# Altium schematic symbol library Componentes_base.SchLib: 431 symbols (part 1 of 12)
Pins are listed as number, name and electrical type; pins without a type are passive.

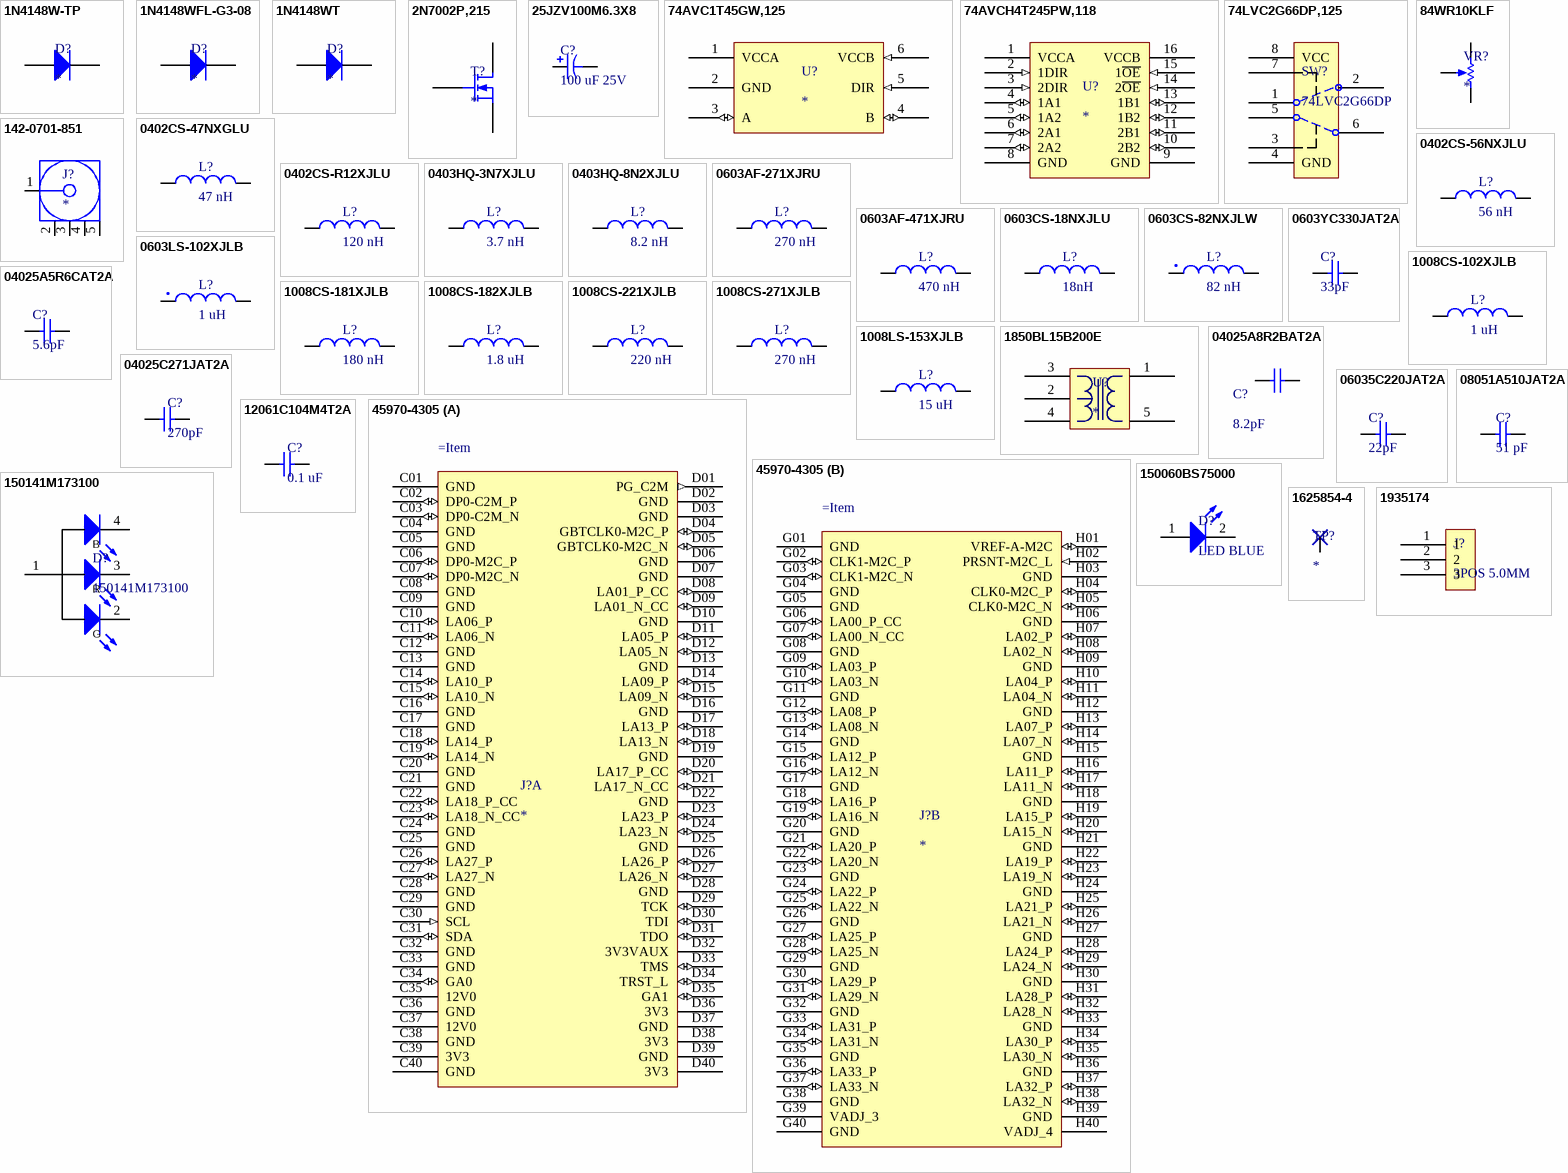
[diagram p0: symbols 1N4148W-TP to 1935174]

## 1N4148W-TP
designator D?
Diodes - General Purpose, Power, Switching 300mA, 100V; Manufacturer: Micro Commercial Components (MCC); Manufacturer Part Number: 1N4148W-TP; Configuration: Single; Forward Continuous Current: 0.15 A; Max Surge Current: 2 A; Recovery Time: 4 ns; Forward Voltage Drop: 1 V; Maximum Reverse Leakage Current: 5 uA; Diode Type: Standard; Current - Average Rectified (Io): 150mA; Voltage - Forward (Vf) (Max) @ If: 1.25V @ 150mA; Speed: Small Signal =< 200mA (Io), Any Speed; Reverse Recovery Time (trr): 4ns; Current - Reverse Leakage @ Vr: 1µA @ 75V; Capacitance @ Vr, F: 2pF @ 0V, 1MHz; Supplier 1: Mouser; Supplier Part Number 1: 833-1N4148W-TP; RoHS: RoHS Compliant; Category: Diodes - General Purpose, Power, Switching; Stock 1: 119556; Pricing 1: 1=0.112, 10=0.098, 100=0.035, 1000=0.023, 3000=0.017, 9000=0.016, 24000=0.014, 45000=0.012, 99000=0.010 (EUR); Operating Temperature Range: - 55 C to + 150 C; Package/Case: SOD-123; Packaging: Reel; Product: Switching Diodes; Series: 1N4148; Brand: Micro Commercial Components (MCC); Mounting Style: SMD/SMT; Maximum Operating Temperature: + 150 C; Minimum Operating Temperature: - 55 C; Peak Reverse Voltage: 100 V; Product Category: Diodes - Switching; Standard Pack Qty: 3000; RoHS - Mouser: Y; Minimum Order Quantity: 1; Reeling: True; ComponentLink1URL: http://www.mouser.com/ds/2/258/1N4148W(SOD123)-349435.pdf; ComponentLink1Description: http://www.mouser.com/ds/2/258/1N4148W(SOD123)-349435.pdf; Supplier 2: Digi-Key; Supplier Part Number 2: 1N4148WTPMSCT-ND; Stock 2: 48830; Pricing 2: 1=0.12, 10=0.11, 25=0.0996, 100=0.0718, 250=0.04228, 500=0.03508, 1000=0.02392 (EUR); Voltage - DC Reverse (Vr) (Max): 100V; Mounting Type: Surface Mount; Package / Case: SOD-123; Supplier Device Package: SOD-123; Operating Temperature - Junction: -65°C ~ 150°C; ComponentLink2URL: http://www.mccsemi.com/up_pdf/1N4148W(SOD123).pdf; ComponentLink2Description: http://www.mccsemi.com/up_pdf/1N4148W(SOD123).pdf
footprint SOD-523 (Molded Diode, 2-Leads, Body 1,60x0,80mm, IPC High Density)
pins: 1 K, 2 A

## 1N4148WFL-G3-08
designator D?
Diodes - General Purpose, Power, Switching 100volt 500mA 4ns; Manufacturer: Vishay Semiconductors; Manufacturer Part Number: 1N4148WFL-G3-08; Forward Continuous Current: 150 mA; Forward Voltage Drop: 1.2 V; Maximum Diode Capacitance: 4 pF; Maximum Power Dissipation: 350 mW; Maximum Reverse Leakage Current: 100 uA; Peak Reverse Voltage: 100 V; Product Status: New at Mouser; Diode Type: Standard; Voltage - DC Reverse (Vr) (Max): 75V; Current - Average Rectified (Io): 150mA; Voltage - Forward (Vf) (Max) @ If: 1.2V @ 100mA; Speed: Small Signal =< 200mA (Io), Any Speed; Current - Reverse Leakage @ Vr: 5µA @ 75V; Supplier 1: Mouser; Supplier Part Number 1: 78-1N4148WFL-G3-08; RoHS: RoHS Compliant; Category: Diodes - General Purpose, Power, Switching; Stock 1: 25581; Pricing 1: 1=0.087, 4500=0.026, 9000=0.022, 13500=0.019, 18000=0.016, 54000=0.015 (EUR); Operating Temperature Range: - 65 C to + 150 C; Package/Case: SOD-123; Packaging: Reel; Product: Switching Diodes; Series: 1N4148; Brand: Vishay Semiconductors; Max Surge Current: 500 mA; Mounting Style: SMD/SMT; Recovery Time: 4 ns; Maximum Operating Temperature: + 150 C; Minimum Operating Temperature: - 65 C; Product Category: Switching Diodes; Standard Pack Qty: 18000; RoHS - Mouser: Y; Minimum Order Quantity: 1; Reeling: True; ComponentLink1URL: http://www.mouser.com/ds/2/427/1n4148w-269644.pdf; ComponentLink1Description: http://www.mouser.com/ds/2/427/1n4148w-269644.pdf; Supplier 2: Digi-Key; Supplier Part Number 2: 1N4148WFL-G3-08GICT-ND; Stock 2: 849; Pricing 2: 1=0.11, 10=0.099, 25=0.0908, 100=0.0653, 250=0.03844, 500=0.03188, 1000=0.02175 (EUR); Reverse Recovery Time (trr): 4ns; Capacitance @ Vr, F: -; Mounting Type: Surface Mount; Package / Case: SOD-123; Supplier Device Package: SOD-123FL; Operating Temperature - Junction: 150°C (Max); ComponentLink2URL: http://www.vishay.com/docs/85887/1n4148wfl-g.pdf; ComponentLink2Description: http://www.vishay.com/docs/85887/1n4148wfl-g.pdf
footprint SOD123-FL (Molded Diode, 2-Leads, Body 2,60x1,60mm, IPC High Density)
pins: 1 K, 2 A

## 1N4148WT
designator D?
DIODE SWITCHING 75V 0.2A SOD523F; Manufacturer: Fairchild Semiconductor; Manufacturer Part Number: 1N4148WT; Diode Type: Standard; Current - Average Rectified (Io): 200mA; Voltage - Forward (Vf) (Max) @ If: 1V @ 10mA; Speed: Small Signal =< 200mA (Io), Any Speed; Reverse Recovery Time (trr): 4ns; Current - Reverse Leakage @ Vr: 5µA @ 75V; Capacitance @ Vr, F: 5pF @ 0V, 1MHz; Supplier 1: Digi-Key; Supplier Part Number 1: 1N4148WTCT-ND; RoHS: RoHS Compliant; Category: Discrete Semiconductor Products; Stock 1: 266025; Pricing 1: 1=0.13, 10=0.12, 25=0.1088, 100=0.0783, 250=0.04612, 500=0.03826, 1000=0.0261, 2500=0.02222 (EUR); Packaging: Cut Tape (CT); Voltage - DC Reverse (Vr) (Max): 75V; Mounting Type: Surface Mount; Package / Case: SC-79, SOD-523F; Supplier Device Package: SOD-523F; Operating Temperature - Junction: -55°C ~ 150°C; ComponentLink1URL: http://www.fairchildsemi.com/datasheets/1N/1N914BWT.pdf; ComponentLink1Description: http://www.fairchildsemi.com/datasheets/1N/1N914BWT.pdf
footprint SOD-523 (Molded Diode, 2-Leads, Body 1,60x0,80mm, IPC High Density)
pins: 1 K, 2 A

## 2N7002P,215
designator T?
MOSFET 60V 0.3A N-CHANNEL TRENCH MOSFET; Manufacturer: NXP Semiconductors; Manufacturer Part Number: 2N7002P,215; FET Type: MOSFET N-Channel, Metal Oxide; FET Feature: Logic Level Gate; Current - Continuous Drain (Id) @ 25°C: 360mA (Ta); Rds On (Max) @ Id, Vgs: 1.6 Ohm @ 500mA, 10V; Vgs(th) (Max) @ Id: 2.4V @ 250µA; Gate Charge (Qg) @ Vgs: 0.8nC @ 4.5V; Input Capacitance (Ciss) @ Vds: 50pF @ 10V; Power - Max: 350mW; Supplier 1: Digi-Key; Supplier Part Number 1: 568-5818-6-ND; RoHS: RoHS Compliant; Category: Discrete Semiconductor Products; Stock 1: 189364; Pricing 1: 1=0.12, 10=0.112, 25=0.102, 100=0.0734, 250=0.04324, 500=0.03588, 1000=0.02447 (EUR); Packaging: Digi-Reel®; Drain to Source Voltage (Vdss): 60V; Mounting Type: Surface Mount; Package / Case: TO-236-3, SC-59, SOT-23-3; Supplier Device Package: SOT-23 (TO-236AB); ComponentLink1URL: http://www.nxp.com/documents/data_sheet/2N7002P.pdf; ComponentLink1Description: http://www.nxp.com/documents/data_sheet/2N7002P.pdf
footprint SOT95P230X110-3N (SOT23, 3-Leads, Body 2,90x2,30mm, Pitch 0,95mm, IPC Medium Density)
footprint 8-QFN
pins: 1 G, 2 S, 3 D

## 25JZV100M6.3X8
designator C?, comment 100 uF 25V
CAP ALUM 100UF 20% 25V SMD; Manufacturer: Rubycon; Manufacturer Part Number: 25JZV100M6.3X8; Capacitance: 100µF; Lifetime @ Temp.: 2000 Hrs @ 105°C; Polarization: Polar; Ripple Current: 150mA; Impedance: 340 mOhm; Surface Mount Land Size: 0.260" L x 0.260" W (6.60mm x 6.60mm); Supplier 1: Digi-Key; RoHS: RoHS Compliant; Category: Capacitors; Stock 1: 1506; Pricing 1: 1=0.56, 10=0.394, 25=0.3368, 50=0.2982, 100=0.2597, 250=0.22128 (EUR); Packaging: Cut Tape (CT); Part Status: Active; Tolerance: ±20%; Voltage Rating: 25V; ESR (Equivalent Series Resistance): -; Operating Temperature: -55°C ~ 105°C; Applications: Automotive; High Temperature Reflow; Lead Spacing: -; Size / Dimension: 0.248" Dia (6.30mm); Height - Seated (Max): 0.315" (8.00mm); Mounting Type: Surface Mount; Package / Case: Radial, Can - SMD; ComponentLink1URL: http://www.rubycon.co.jp/en/catalog/e_pdfs/aluminum/e_jzv.pdf; ComponentLink1Description: http://www.rubycon.co.jp/en/catalog/e_pdfs/aluminum/e_jzv.pdf; Supplier Part Number 1: 1189-2425-1-ND
footprint CAPAE7266X80M (Aluminum Electrolytic Capacitor, Body 6,60x6,60x8,00mm, IPC Low Density)
pins: 1, 2

## 74AVC1T45GW,125
designator U?
Bus Transceivers 2.5V 1G DUAL-SUP; Manufacturer: NXP Semiconductors; Manufacturer Part Number: 74AVC1T45GW,125; Supply Current: 100 mA; Logic Type: Translating Transceiver; Logic Function: Translator, Bidirectional, 3-State; Number of Bits: 1; Input Type: Logic; Data Rate: 500Mbps; Differential - Input:Output: No/No; Propagation Delay (Max): 2.7ns; Voltage - Supply: 0.8 V ~ 3.6 V; Supplier 1: Mouser; Supplier Part Number 1: 771-AVC1T45GW125; RoHS: RoHS Compliant; Category: Bus Transceivers; Stock 1: 12547; Pricing 1: 1=0.372, 10=0.247, 100=0.178, 1000=0.147, 3000=0.125, 9000=0.113, 24000=0.111, 45000=0.108, 99000=0.104 (EUR); Package/Case: SC-88; Packaging: Reel; Brand: NXP Semiconductors; Mounting Style: SMD/SMT; Maximum Operating Temperature: + 125 C; Minimum Operating Temperature: - 40 C; Product Category: Demos & Evaluation Kits; Standard Pack Qty: 3000; RoHS - Mouser: Y; Minimum Order Quantity: 1; Reeling: True; ComponentLink1URL: http://www.nxp.com/documents/data_sheet/74AVC1T45.pdf; ComponentLink1Description: http://www.nxp.com/documents/data_sheet/74AVC1T45.pdf; Supplier 2: Digi-Key; Supplier Part Number 2: 568-7723-1-ND; Stock 2: 8189; Pricing 2: 1=0.43, 10=0.363, 25=0.318, 100=0.2719, 250=0.2358, 500=0.19974, 1000=0.15398 (EUR); Output Type: Logic; Number of Channels: 1; Number of Outputs/Channel: 1; Operating Temperature: -40°C ~ 125°C; Package / Case: 6-TSSOP, SC-88, SOT-363; Supplier Device Package: 6-TSSOP; Mounting Type: Surface Mount
footprint SC70P220X110-6N (SC-70, 6-Leads, Body 2,00x2,20mm, Pitch 0,65mm, IPC Medium Density)
pins: 1 VCCA (power), 2 GND (power), 3 A (io), 4 B (io), 5 DIR (in), 6 VCCB (in)

## 74AVCH4T245PW,118
designator U?
Bus Transceivers 2CHAN 3.6V 500mW; Manufacturer: NXP Semiconductors; Manufacturer Part Number: 74AVCH4T245PW,118; Logic Family: 74ACH; Number of Channels per Chip: 2; Propagation Delay Time: 6 ns, 12 ns; Supply Voltage - Min: 0.8 V; Logic Function: Translator, Bidirectional, 3-State; Input Type: Voltage; Data Rate: 380Mbps; Number of Channels: 1; Differential - Input:Output: No/No; Propagation Delay (Max): 3.3ns; Voltage - Supply: 0.8 V ~ 3.6 V; Supplier 1: Mouser; Supplier Part Number 1: 771-74AVCH4T245PW118; RoHS: RoHS Compliant; Category: Bus Transceivers; Stock 1: 2727; Pricing 1: 1=0.753, 10=0.600, 100=0.465, 500=0.411, 1000=0.324, 2500=0.287, 10000=0.277, 25000=0.268 (EUR); Package/Case: TSSOP-16; Packaging: Reel; Brand: NXP Semiconductors; Mounting Style: SMD/SMT; Maximum Operating Temperature: + 125 C; Maximum Power Dissipation: 500 mW; Minimum Operating Temperature: - 40 C; Standard Pack Qty: 2500; Supply Voltage - Max: 3.6 V; RoHS - Mouser: Y; Minimum Order Quantity: 1; Reeling: True; ComponentLink1URL: http://www.mouser.com/ds/2/302/74AVCH4T245-105838.pdf; ComponentLink1Description: http://www.mouser.com/ds/2/302/74AVCH4T245-105838.pdf; Supplier 2: Digi-Key; Supplier Part Number 2: 568-5259-1-ND; Stock 2: 6226; Pricing 2: 1=0.79, 10=0.702, 25=0.6336, 100=0.5543, 250=0.48616, 500=0.43114, 1000=0.34096 (EUR); Number of Bits: 2; Output Type: Voltage; Number of Outputs/Channel: 2; Operating Temperature: -40°C ~ 125°C; Package / Case: 16-TSSOP (0.173", 4.40mm Width); Supplier Device Package: 16-TSSOP; Mounting Type: Surface Mount; ComponentLink2URL: http://www.nxp.com/documents/data_sheet/74AVCH4T245.pdf; ComponentLink2Description: http://www.nxp.com/documents/data_sheet/74AVCH4T245.pdf
footprint TSOP65P640X110-16L (TSOP, 16-Leads, Body 5,00x4,40mm, Pitch 0,65mm, IPC High Density)
pins: 1 VCCA (power), 2 1DIR (in), 3 2DIR (in), 4 1A1 (io), 5 1A2 (io), 6 2A1 (io), 7 2A2 (io), 8 GND (power), 9 GND (power), 10 2B2 (io), 11 2B1 (io), 12 1B2 (io), 13 1B1 (io), 14 2~{OE} (in), 15 1~{OE} (in), 16 VCCB (power)

## 74LVC2G66DP,125
designator SW?, comment 74LVC2G66DP
IC SWITCH DUAL SPST 8TSSOP; Manufacturer: Nexperia USA Inc.; Manufacturer Part Number: 74LVC2G66DP,125; Switch Circuit: SPST - NO; Multiplexer/Demultiplexer Circuit: 1:1; Number of Circuits: 2; On-State Resistance (Max): 10 Ohm; Voltage - Supply, Single (V+): 1.65 V ~ 5.5 V; Switch Time (Ton, Toff) (Max): 3.9ns, 5ns; -3db Bandwidth: 500MHz; Charge Injection: 7.5pC; Channel Capacitance (CS(off), CD(off)): 5pF; Current - Leakage (IS(off)) (Max): 5µA; Crosstalk: -56dB @ 1MHz; Supplier 1: Digi-Key; RoHS: RoHS Compliant; Category: Integrated Circuits (ICs); Stock 1: 0; Pricing 1: 1=0.44, 10=0.354, 100=0.2404, 500=0.18032, 1000=0.13524 (EUR); Packaging: Cut Tape (CT); Part Status: Active; Channel-to-Channel Matching (&Delta;Ron): -; Voltage - Supply, Dual (V±): -; Operating Temperature: -40°C ~ 125°C (TA); Package / Case: 8-TSSOP, 8-MSOP (0.118", 3.00mm Width); Supplier Device Package: 8-TSSOP; ComponentLink1URL: http://assets.nexperia.com/documents/data-sheet/74LVC2G66.pdf; ComponentLink1Description: http://assets.nexperia.com/documents/data-sheet/74LVC2G66.pdf; Supplier Part Number 1: 1727-5993-1-ND
footprint 8-TSSOP/SOT505-2
pins: 1 1Y, 2 1Z, 3 2E, 4 GND, 5 2Y, 6 2Z, 7 1E, 8 VCC

## 84WR10KLF
designator VR?
Trimmer Resistors - SMD 6.35MM 1/4" 12-TURN SEALED; Manufacturer: BI Technologies / TT Electronics; Manufacturer Part Number: 84WR10KLF; Power Rating: 250 mW (1/4 W); Resistance: 10 kOhms; Tolerance: 10 %; Adjustment: Top Slot; Element Type: Cermet; Resistance (Ohms): 10k; Power (Watts): 0.25W, 1/4W; Temperature Coefficient: ±100ppm/°C; Number of Turns: 12; Adjustment Type: Top Adjustment; Supplier 1: Mouser; RoHS: RoHS Compliant By Exemption; Category: Trimmer Resistors - SMD; Stock 1: 391; Pricing 1: 1=2.03, 25=1.88, 50=1.76, 100=1.55, 200=1.32, 500=1.11, 1000=0.955, 2000=0.937 (EUR); Packaging: Bulk; Product: Multiturn; Termination Style: SMD/SMT; Type: Trimmers; Brand: BI Technologies / TT Electronics; Product Category: Multi Turn SMD Trimmers; Standard Pack Qty: 50; RoHS - Mouser: E; Minimum Order Quantity: 1; Reeling: False; ComponentLink1URL: http://www.mouser.com/ds/2/414/84-220076.pdf; ComponentLink1Description: http://www.mouser.com/ds/2/414/84-220076.pdf; Supplier 2: Digi-Key; Stock 2: 1668; Pricing 2: 1=2.08, 10=1.84, 25=1.706, 50=1.6056, 100=1.4049, 250=1.2042, 500=1.0035, 1000=0.8697, 2500=0.85298 (EUR); Resistive Material: Cermet; Mounting Type: Surface Mount; Size / Dimension: Rectangular - 0.250" x 0.170" Face x 0.295" H (6.35mm x 4.32mm x 7.49mm); ComponentLink2URL: http://www.bitechnologies.com/pdfs/84.pdf; ComponentLink2Description: http://www.bitechnologies.com/pdfs/84.pdf; Supplier Part Number 1: 858-84WR10KLF; Supplier Part Number 2: 987-1155-ND
footprint TT BI 84W SERIES (MULTITURN TRIMMER, 3-Leads, Body 6,35x6,36mm, Pitch 2,54mm, IPC High Density)
pins: 1 TOP, 2 TAP, 3 BOT

## 142-0701-851
designator J?
RF Connectors / Coaxial Connectors PC END MT JCK GLD .062 BOARDS TAB; Manufacturer: Johnson / Cinch Connectivity Solutions; Manufacturer Part Number: 142-0701-851; Body Material: Brass; Body Style: Straight; Gender: Jack (Female); Impedance: 50 Ohms; RF Series: SMA; Maximum Frequency: 18 GHz; Connector Type: Jack, Female Socket; Contact Termination: Solder; Frequency - Max: 18GHz; Body Finish: Gold; Center Contact Material: Beryllium Copper; Dielectric Material: Polytetrafluoroethylene (PTFE); Voltage Rating: 335V; Supplier 1: Mouser; Supplier Part Number 1: 530-142-0701-851; RoHS: RoHS Compliant; Category: RF Connectors / Coaxial Connectors; Stock 1: 21985; Pricing 1: 1=4.65, 10=4.13, 25=3.56, 100=3.09, 500=2.49, 1000=2.34 (EUR); Contact Plating: Gold; Operating Temperature Range: - 65 C to + 165 C; Orientation: Straight; Product: Connectors; Series: SMA; Termination Style: Solder; Brand: Johnson / Cinch Connectivity Solutions; Product Category: SMA Connectors; Standard Pack Qty: 5; RoHS - Mouser: Y; Minimum Order Quantity: 1; Reeling: False; ComponentLink1URL: http://emersonconnectivity.com/OA_HTML/ibeCCtpItmDspRte.jsp?item=4253264; ComponentLink1Description: http://emersonconnectivity.com/OA_HTML/ibeCCtpItmDspRte.jsp?item=4253264; Supplier 2: Digi-Key; Supplier Part Number 2: J658-ND; Stock 2: 64832; Pricing 2: 1=5.23, 10=4.656, 50=3.8012, 100=3.421, 250=3.13592, 500=2.66078, 750=2.52775, 1000=2.3757, 2500=2.28068 (EUR); Packaging: Bulk; Connector Style: SMA; Shield Termination: Solder; Mounting Type: Board Edge, End Launch; Cable Group: -; Fastening Type: Threaded; Features: -; Housing Color: Gold; Ingress Protection: -; Center Contact Plating: Gold; Operating Temperature: -65°C ~ 165°C; ComponentLink2URL: http://emersonconnectivity.com/OA_MEDIA/drawings/dr-1420701851.pdf; ComponentLink2Description: http://emersonconnectivity.com/OA_MEDIA/drawings/dr-1420701851.pdf
footprint 142-0701-851 (CONN SMA JACK 50 OHM EDGE MNT)
pins: 1 Signal (io) "Signal Pin", 2 GND (power), 3 GND (power), 4 GND (power), 5 GND (power)

## 0402CS-47NXGLU
designator L?, comment 47 nH
COILCRAFT - 0402CS-47NXGLU - INDUCTOR, RF, 47NH, 2%, 2.1GHZ, SMD; Supplier 1: Farnell; Manufacturer: COILCRAFT; Manufacturer Part Number: 0402CS-47NXGLU; RoHS: Y-EX; Stock 1: 477; Pricing 1: 1=1,18, 10=1,06, 50=0,89, 100=0,829, 200=0,79, 500=0,529, 1000=0,418 (EUR); ComponentLink1URL: http://www.farnell.com/datasheets/1681871.pdf; ComponentLink1Description: http://www.farnell.com/datasheets/1681871.pdf; Supplier Part Number 1: 2285690
footprint INDC1005X07L (Coilcraft 0402CS, 2-Leads, Body 1,10x0,57mm, IPC High Density)
pins: 1, 2

## 0402CS-56NXJLU
designator L?, comment 56 nH
Fixed Inductors 0402CS HiFreq Chip 56 nH 5 % 0.1 A; Manufacturer: Coilcraft; Manufacturer Part Number: 0402CS-56NXJLU; Core Material: Ceramic; Maximum DC Current: 100 mA; Maximum DC Resistance: 970 mOhms; Q Minimum: 42; Self Resonant Frequency: 1.76 GHz; Tolerance: 5 %; Test Frequency: 250 MHz; Supplier 1: Mouser; RoHS: RoHS Compliant; Category: Fixed Inductors; Stock 1: 2095; Pricing 1: 1=1.29, 10=1.12, 50=0.914, 100=0.839, 200=0.793, 500=0.500, 1000=0.367, 2000=0.340 (EUR); Height: 0.66 mm; Inductance: 56 nH; Length: 1.19 mm; Operating Temperature Range: - 40 C to + 125 C; Package/Case: 0402 (1005 metric); Packaging: Reel; Product: RF Inductors; Series: 0402CS; Termination Style: SMD/SMT; Width: 0.64 mm; Brand: Coilcraft; Mounting Style: SMD/SMT; Standard Pack Qty: 200; RoHS - Mouser: Y; Minimum Order Quantity: 1; Reeling: True; ComponentLink1URL: http://www.mouser.com/ds/2/597/0402cs-253326.pdf; ComponentLink1Description: http://www.mouser.com/ds/2/597/0402cs-253326.pdf; Supplier Part Number 1: 994-0402CS-56NXJLU
footprint INDC1005X07L (Coilcraft 0402CS, 2-Leads, Body 1,10x0,57mm, IPC High Density)
pins: 1, 2

## 0402CS-R12XJLU
designator L?, comment 120 nH
Fixed Inductors RF Chip Inductor 120 nH 5 % 0.05 A; Manufacturer: Coilcraft; Manufacturer Part Number: 0402CS-R12XJLU; Core Material: Ceramic; Maximum DC Current: 50 mA; Maximum DC Resistance: 2.2 Ohms; Self Resonant Frequency: 1.1 GHz; Tolerance: 5 %; Case Height: 0.66 mm; Case Length: 1.19 mm; Case Width: 0.64 mm; Test Frequency: 250 MHz; Product Status: New at Mouser; Supplier 1: Mouser; Supplier Part Number 1: 994-0402CS-R12XJLU; RoHS: RoHS Compliant; Category: Fixed Inductors; Stock 1: 189; Pricing 1: 1=1.20, 10=1.04, 50=0.848, 100=0.779, 200=0.736, 400=0.465, 1000=0.341, 2000=0.316 (EUR); Inductance: 120 nH; Operating Temperature Range: - 40 C to + 125 C; Package/Case: 0402 (1005 metric); Packaging: Reel; Product: RF Chip Inductors; Series: 0402CS; Termination Style: SMD/SMT; Brand: Coilcraft; Standard Pack Qty: 200; RoHS - Mouser: Y; Minimum Order Quantity: 1; Reeling: True; ComponentLink1URL: http://www.mouser.com/ds/2/597/0402cs-253326.pdf; ComponentLink1Description: http://www.mouser.com/ds/2/597/0402cs-253326.pdf
footprint INDC1005X07L (Coilcraft 0402CS, 2-Leads, Body 1,10x0,57mm, IPC High Density)
pins: 1, 2

## 0403HQ-3N7XJLU
designator L?, comment 3.7 nH
Fixed Inductors RF Chip Inductor 3.7 nH 5 % 1.8 A; Manufacturer: Coilcraft; Manufacturer Part Number: 0403HQ-3N7XJLU; Core Material: Ceramic; Maximum DC Current: 1.8 A; Maximum DC Resistance: 20 mOhms; Q Minimum: 95; Self Resonant Frequency: 8.65 GHz; Tolerance: 5 %; Case Height: 0.71 mm; Case Length: 1.19 mm; Case Width: 0.86 mm; Test Frequency: 500 MHz; Product Status: New at Mouser; Supplier 1: Mouser; Supplier Part Number 1: 994-0403HQ-3N7XJLU; RoHS: RoHS Compliant; Category: Fixed Inductors; Stock 1: 408; Pricing 1: 1=1.31, 10=1.15, 50=1.02, 100=0.899, 200=0.774, 400=0.690, 1000=0.630, 2000=0.584 (EUR); Inductance: 3.7 nH; Operating Temperature Range: - 40 C to + 125 C; Package/Case: 0403 (1008 metric); Packaging: Reel; Product: RF Chip Inductors; Series: 0403HQ; Termination Style: SMD/SMT; Brand: Coilcraft; Standard Pack Qty: 200; RoHS - Mouser: Y; Minimum Order Quantity: 1; Reeling: True; ComponentLink1URL: http://www.mouser.com/ds/2/597/0403hq-270639.pdf; ComponentLink1Description: http://www.mouser.com/ds/2/597/0403hq-270639.pdf
footprint INDC1008X07L (Coilcraft 0403HQ, 2-Leads, Body 1,09x0,76mm, IPC High Density)
pins: 1, 2

## 0403HQ-8N2XJLU
designator L?, comment 8.2 nH
Fixed Inductors 0403HQ High Q Chip 8.2 nH 5 % 1.2 A; Manufacturer: Coilcraft; Manufacturer Part Number: 0403HQ-8N2XJLU; Core Material: Ceramic; Maximum DC Current: 1.2 A; Maximum DC Resistance: 40 mOhms; Q Minimum: 92; Self Resonant Frequency: 6.73 GHz; Tolerance: 5 %; Test Frequency: 500 MHz; Supplier 1: Mouser; RoHS: RoHS Compliant; Category: Fixed Inductors; Stock 1: 0; Pricing 1: 1=1.41, 10=1.24, 50=1.10, 100=0.968, 200=0.834, 500=0.743, 1000=0.679, 2000=0.629 (EUR); Height: 0.71 mm; Inductance: 8.2 nH; Length: 1.19 mm; Operating Temperature Range: - 40 C to + 125 C; Package/Case: 0403 (1008 metric); Packaging: Bulk; Product: RF Inductors; Series: 0403HQ; Termination Style: SMD/SMT; Width: 0.86 mm; Brand: Coilcraft; Mounting Style: SMD/SMT; Standard Pack Qty: 200; RoHS - Mouser: Y; Minimum Order Quantity: 1; Reeling: False; ComponentLink1URL: http://www.mouser.com/ds/2/597/0403hq-270639.pdf; ComponentLink1Description: http://www.mouser.com/ds/2/597/0403hq-270639.pdf; Supplier Part Number 1: 994-0403HQ-8N2XJLU
footprint INDC1008X07L (Coilcraft 0403HQ, 2-Leads, Body 1,09x0,76mm, IPC High Density)
pins: 1, 2

## 0603AF-271XJRU
designator L?, comment 270 nH
Fixed Inductors RF Chip Inductor 270 nH 5 % 0.68 A; Manufacturer: Coilcraft; Manufacturer Part Number: 0603AF-271XJRU; Core Material: Ferrite; Maximum DC Current: 680 mA; Maximum DC Resistance: 220 mOhms; Q Minimum: 15; Self Resonant Frequency: 750 MHz; Tolerance: 5 %; Case Height: 0.91 mm; Case Length: 1.8 mm; Case Width: 1.12 mm; Test Frequency: 7.9 MHz; Product Status: New at Mouser; Supplier 1: Mouser; Supplier Part Number 1: 994-0603AF-271XJRU; RoHS: RoHS Compliant; Category: Fixed Inductors; Stock 1: 1179; Pricing 1: 1=1.23, 10=1.10, 50=0.932, 100=0.857, 200=0.812, 500=0.587, 1000=0.420, 2000=0.389 (EUR); Inductance: 270 nH; Operating Temperature Range: - 40 C to + 85 C; Package/Case: 0603 (1608 metric); Packaging: Reel; Product: RF Chip Inductors; Series: 0603AF; Termination Style: SMD/SMT; Brand: Coilcraft; Standard Pack Qty: 100; RoHS - Mouser: Y; Minimum Order Quantity: 1; Reeling: True; ComponentLink1URL: http://www.mouser.com/ds/2/597/0603af-270719.pdf; ComponentLink1Description: http://www.mouser.com/ds/2/597/0603af-270719.pdf
footprint INDC1811X09L (Chip Inductor, 2-Leads, Body 1,80x1,12mm, IPC High Density)
pins: 1, 2

## 0603AF-471XJRU
designator L?, comment 470 nH
Fixed Inductors 0603AF Ferrite Chip 470 nH 5 % 0.61 A; Manufacturer: Coilcraft; Manufacturer Part Number: 0603AF-471XJRU; Maximum DC Current: 610 mA; Maximum DC Resistance: 370 mOhms; Q Minimum: 15; Self Resonant Frequency: 575 MHz; Tolerance: 5 %; Test Frequency: 7.9 MHz; Supplier 1: Mouser; RoHS: RoHS Compliant; Category: Fixed Inductors; Stock 1: 113; Pricing 1: 1=1.32, 10=1.19, 50=1.00, 100=0.923, 200=0.875, 500=0.633, 1000=0.453, 2000=0.419 (EUR); Core Material: Ferrite; Height: 0.91 mm; Inductance: 470 nH; Length: 1.8 mm; Operating Temperature Range: - 40 C to + 85 C; Package/Case: 0603 (1608 metric); Packaging: Reel; Product: RF Inductors; Series: 0603AF; Termination Style: SMD/SMT; Width: 1.12 mm; Brand: Coilcraft; Mounting Style: SMD/SMT; Standard Pack Qty: 100; RoHS - Mouser: Y; Minimum Order Quantity: 1; Reeling: True; ComponentLink1URL: http://www.mouser.com/ds/2/597/0603af-270719.pdf; ComponentLink1Description: http://www.mouser.com/ds/2/597/0603af-270719.pdf; Supplier Part Number 1: 994-0603AF-471XJRU
footprint INDC1811X09L (Chip Inductor, 2-Leads, Body 1,80x1,12mm, IPC High Density)
pins: 1, 2

## 0603CS-18NXJLU
designator L?, comment 18nH
COILCRAFT - 0603CS-18NXJLU - INDUCTOR, RF, 18NH, 5%, 3.1GHZ, SMD
footprint INDC1811X10L 0603CS (Chip Inductor, 2-Leads, Body 1,80x1,12mm, IPC High Density)
pins: 1, 2

## 0603CS-82NXJLW
designator L?, comment 82 nH
Fixed Inductors 0603CS High Q, SRF 82 nH 5 % 0.4 A; Manufacturer: Coilcraft; Manufacturer Part Number: 0603CS-82NXJLW; Core Material: Ceramic; Maximum DC Current: 400 mA; Maximum DC Resistance: 540 mOhms; Q Minimum: 21; Self Resonant Frequency: 1.7 GHz; Tolerance: 5 %; Test Frequency: 150 MHz; Supplier 1: Mouser; RoHS: RoHS Compliant; Category: Fixed Inductors; Stock 1: 1730; Pricing 1: 1=0.887, 10=0.822, 50=0.722, 100=0.662, 200=0.626, 500=0.447, 1000=0.293, 2000=0.262 (EUR); Height: 1.02 mm; Inductance: 82 nH; Length: 1.8 mm; Operating Temperature Range: - 40 C to + 125 C; Package/Case: 0603 (1608 metric); Packaging: Reel; Product: RF Inductors; Series: 0603CS; Termination Style: SMD/SMT; Width: 1.12 mm; Brand: Coilcraft; Mounting Style: SMD/SMT; Standard Pack Qty: 2000; RoHS - Mouser: Y; Minimum Order Quantity: 1; Reeling: True; ComponentLink1URL: http://www.mouser.com/ds/2/597/0603cs-270694.pdf; ComponentLink1Description: http://www.mouser.com/ds/2/597/0603cs-270694.pdf; Supplier Part Number 1: 994-0603CS-82NXJLW
footprint INDC1811X10L 0603CS (Chip Inductor, 2-Leads, Body 1,80x1,12mm, IPC High Density)
pins: 1, 2

## 0603LS-102XJLB
designator L?, comment 1 uH
Fixed Inductors 0603LS Ferrite Chip 1uH 5% 0.4A Cer/Ferr; Manufacturer: Coilcraft; Manufacturer Part Number: 0603LS-102XJLB; Core Material: Ceramic/Ferrite; Maximum DC Current: 400 mA; Maximum DC Resistance: 810 mOhms; Q Minimum: 15; Self Resonant Frequency: 190 MHz; Test Frequency: 7.9 MHz; Supplier 1: Mouser; RoHS: RoHS Compliant; Category: Fixed Inductors; Stock 1: 678; Pricing 1: 1=1.32, 10=1.19, 50=1.00, 100=0.923, 200=0.875, 500=0.633, 1000=0.453, 2000=0.419 (EUR); Height: 1.12 mm; Inductance: 1 uH; Length: 1.8 mm; Operating Temperature Range: - 40 C to + 85 C; Package/Case: 0603 (1608 metric); Packaging: Reel; Product: RF Inductors; Series: 0603LS; Termination Style: SMD/SMT; Tolerance: 5 %; Width: 1.169 mm; Brand: Coilcraft; Mounting Style: SMD/SMT; Standard Pack Qty: 70; RoHS - Mouser: Y; Minimum Order Quantity: 1; Reeling: True; ComponentLink1URL: http://www.mouser.com/ds/2/597/0603ls-270606.pdf; ComponentLink1Description: http://www.mouser.com/ds/2/597/0603ls-270606.pdf; Supplier Part Number 1: 994-0603LS-102XJLB
footprint INDC1812X11L 0603LS (Chip Inductor, 2-Leads, Body 1,80x1,17mm, IPC High Density)
pins: 1, 2

## 0603YC330JAT2A
designator C?, comment 33pF
CAP CER 33PF 16V X7R 0603; Manufacturer: AVX Corporation; Manufacturer Part Number: 0603YC330JAT2A; Tolerance: ±5%; Supplier 1: Digi-Key; RoHS: RoHS Compliant; Category: Capacitors; Stock 1: 39192; Pricing 1: 1=0.19, 10=0.127, 25=0.0932, 50=0.0764, 100=0.0643, 250=0.05252, 500=0.04404, 1000=0.03896 (EUR); Packaging: Digi-Reel®; Part Status: Active; Capacitance: 33pF; Voltage - Rated: 16V; Temperature Coefficient: X7R; Operating Temperature: -55°C ~ 125°C; Features: -; Ratings: -; Applications: General Purpose; Mounting Type: Surface Mount, MLCC; Package / Case: 0603 (1608 Metric); Size / Dimension: 0.063" L x 0.032" W (1.60mm x 0.81mm); Height - Seated (Max): -; Thickness (Max): 0.035" (0.90mm); Lead Spacing: -; Lead Style: -; ComponentLink1URL: http://datasheets.avx.com/X7RDielectric.pdf; ComponentLink1Description: http://datasheets.avx.com/X7RDielectric.pdf; Supplier Part Number 1: 478-6211-6-ND
footprint 0603 Cap (Chip Capacitor, Body 1.6x0.8mm, IPC High Density)
pins: 1, 2

## 1008CS-102XJLB
designator L?, comment 1 uH
Fixed Inductors RF Chip Inductor 1000 nH 5 % 0.37 A; Manufacturer: Coilcraft; Manufacturer Part Number: 1008CS-102XJLB; Core Material: Ceramic; Maximum DC Current: 370 mA; Maximum DC Resistance: 1.75 Ohms; Q Minimum: 35; Self Resonant Frequency: 290 MHz; Tolerance: 5 %; Case Height: 2.03 mm; Case Length: 2.92 mm; Case Width: 2.79 mm; Test Frequency: 25 MHz; Product Status: New at Mouser; Supplier 1: Mouser; Supplier Part Number 1: 994-1008CS-102XJLB; RoHS: RoHS Compliant; Category: Fixed Inductors; Stock 1: 782; Pricing 1: 1=0.882, 10=0.784, 50=0.711, 70=0.711, 100=0.664, 200=0.617, 500=0.442, 1000=0.316, 2000=0.289 (EUR); Inductance: 1 uH; Operating Temperature Range: - 40 C to + 125 C; Package/Case: 1008; Packaging: Reel; Product: RF Chip Inductors; Series: 1008CS; Termination Style: SMD/SMT; Brand: Coilcraft; Standard Pack Qty: 70; RoHS - Mouser: Y; Minimum Order Quantity: 1; Reeling: True; ComponentLink1URL: http://www.mouser.com/ds/2/597/1008cs-270617.pdf; ComponentLink1Description: http://www.mouser.com/ds/2/597/1008cs-270617.pdf
footprint INDC2520X20L (Coilcraft 1008CS, 2-Leads, Body 2,92x2,79mm, IPC High Density)
pins: 1, 2

## 1008CS-181XJLB
designator L?, comment 180 nH
Fixed Inductors 1008CS Ceramic Chip 180 nH 5 % 0.62 A; Manufacturer: Coilcraft; Manufacturer Part Number: 1008CS-181XJLB; Maximum DC Current: 620 mA; Maximum DC Resistance: 770 mOhms; Q Minimum: 45; Self Resonant Frequency: 750 MHz; Tolerance: 5 %; Test Frequency: 25 MHz; Supplier 1: Mouser; RoHS: RoHS Compliant; Category: Fixed Inductors; Stock 1: 2387; Pricing 1: 1=0.950, 10=0.844, 50=0.767, 100=0.715, 200=0.665, 500=0.476, 1000=0.340, 2000=0.311 (EUR); Core Material: Ceramic; Height: 2.03 mm; Inductance: 180 nH; Length: 2.92 mm; Operating Temperature Range: - 40 C to + 125 C; Package/Case: 1008 (2520 metric); Packaging: Reel; Product: RF Inductors; Series: 1008CS; Termination Style: SMD/SMT; Width: 2.79 mm; Brand: Coilcraft; Mounting Style: SMD/SMT; Standard Pack Qty: 70; RoHS - Mouser: Y; Minimum Order Quantity: 1; Reeling: True; ComponentLink1URL: http://www.mouser.com/ds/2/597/1008cs-270617.pdf; ComponentLink1Description: http://www.mouser.com/ds/2/597/1008cs-270617.pdf; Supplier Part Number 1: 994-1008CS-181XJLB
footprint INDC2520X20L (Coilcraft 1008CS, 2-Leads, Body 2,92x2,79mm, IPC High Density)
pins: 1, 2

## 1008CS-182XJLB
designator L?, comment 1.8 uH
Fixed Inductors RF Chip Inductor 1800 nH 5 % 0.3 A; Manufacturer: Coilcraft; Manufacturer Part Number: 1008CS-182XJLB; Core Material: Ceramic; Maximum DC Current: 300 mA; Maximum DC Resistance: 2.6 Ohms; Q Minimum: 28; Self Resonant Frequency: 160 MHz; Tolerance: 5 %; Case Height: 2.03 mm; Case Length: 2.92 mm; Case Width: 2.79 mm; Test Frequency: 7.9 MHz; Product Status: New at Mouser; Supplier 1: Mouser; Supplier Part Number 1: 994-1008CS-182XJLB; RoHS: RoHS Compliant; Category: Fixed Inductors; Stock 1: 226; Pricing 1: 1=0.882, 10=0.784, 50=0.711, 70=0.711, 100=0.664, 200=0.617, 500=0.442, 1000=0.316, 2000=0.289 (EUR); Inductance: 1.8 uH; Operating Temperature Range: - 40 C to + 125 C; Package/Case: 1008; Packaging: Reel; Product: RF Chip Inductors; Series: 1008CS; Termination Style: SMD/SMT; Brand: Coilcraft; Standard Pack Qty: 70; RoHS - Mouser: Y; Minimum Order Quantity: 1; Reeling: True; ComponentLink1URL: http://www.mouser.com/ds/2/597/1008cs-270617.pdf; ComponentLink1Description: http://www.mouser.com/ds/2/597/1008cs-270617.pdf
footprint INDC2520X20L (Coilcraft 1008CS, 2-Leads, Body 2,92x2,79mm, IPC High Density)
pins: 1, 2

## 1008CS-221XJLB
designator L?, comment 220 nH
Fixed Inductors 1008CS Ceramic Chip 220 nH 5 % 0.5 A; Manufacturer: Coilcraft; Manufacturer Part Number: 1008CS-221XJLB; Maximum DC Current: 500 mA; Maximum DC Resistance: 840 mOhms; Q Minimum: 45; Self Resonant Frequency: 700 MHz; Tolerance: 5 %; Test Frequency: 25 MHz; Supplier 1: Mouser; RoHS: RoHS Compliant; Category: Fixed Inductors; Stock 1: 810; Pricing 1: 1=0.950, 10=0.844, 50=0.767, 100=0.715, 200=0.665, 500=0.476, 1000=0.340, 2000=0.311 (EUR); Core Material: Ceramic; Height: 2.03 mm; Inductance: 220 nH; Length: 2.92 mm; Operating Temperature Range: - 40 C to + 125 C; Package/Case: 1008 (2520 metric); Packaging: Reel; Product: RF Inductors; Series: 1008CS; Termination Style: SMD/SMT; Width: 2.79 mm; Brand: Coilcraft; Mounting Style: SMD/SMT; Standard Pack Qty: 70; RoHS - Mouser: Y; Minimum Order Quantity: 1; Reeling: True; ComponentLink1URL: http://www.mouser.com/ds/2/597/1008cs-270617.pdf; ComponentLink1Description: http://www.mouser.com/ds/2/597/1008cs-270617.pdf; Supplier Part Number 1: 994-1008CS-221XJLB
footprint INDC2520X20L (Coilcraft 1008CS, 2-Leads, Body 2,92x2,79mm, IPC High Density)
pins: 1, 2

## 1008CS-271XJLB
designator L?, comment 270 nH
Fixed Inductors RF Chip Inductor 270 nH 5 % 0.5 A; Manufacturer: Coilcraft; Manufacturer Part Number: 1008CS-271XJLB; Core Material: Ceramic; Maximum DC Current: 500 mA; Maximum DC Resistance: 910 mOhms; Q Minimum: 45; Self Resonant Frequency: 600 MHz; Tolerance: 5 %; Case Height: 2.03 mm; Case Length: 2.92 mm; Case Width: 2.79 mm; Test Frequency: 25 MHz; Product Status: New at Mouser; Supplier 1: Mouser; Supplier Part Number 1: 994-1008CS-271XJLB; RoHS: RoHS Compliant; Category: Fixed Inductors; Stock 1: 292; Pricing 1: 1=0.882, 10=0.784, 50=0.711, 70=0.711, 100=0.664, 200=0.617, 500=0.442, 1000=0.316, 2000=0.289 (EUR); Inductance: 270 nH; Operating Temperature Range: - 40 C to + 125 C; Package/Case: 1008; Packaging: Reel; Product: RF Chip Inductors; Series: 1008CS; Termination Style: SMD/SMT; Brand: Coilcraft; Standard Pack Qty: 70; RoHS - Mouser: Y; Minimum Order Quantity: 1; Reeling: True; ComponentLink1URL: http://www.mouser.com/ds/2/597/1008cs-270617.pdf; ComponentLink1Description: http://www.mouser.com/ds/2/597/1008cs-270617.pdf
footprint INDC2520X20L (Coilcraft 1008CS, 2-Leads, Body 2,92x2,79mm, IPC High Density)
pins: 1, 2

## 1008LS-153XJLB
designator L?, comment 15 uH
Fixed Inductors 1008LS Ferrite Chip 15 uH 5 % 0.28 A; Manufacturer: Coilcraft; Manufacturer Part Number: 1008LS-153XJLB; Core Material: Ceramic/Ferrite; Maximum DC Current: 280 mA; Maximum DC Resistance: 3.7 Ohms; Q Minimum: 34; Self Resonant Frequency: 30 MHz; Tolerance: 5 %; Test Frequency: 2.5 MHz; Supplier 1: Mouser; RoHS: RoHS Compliant; Category: Fixed Inductors; Stock 1: 717; Pricing 1: 1=0.977, 10=0.900, 50=0.824, 100=0.761, 200=0.664, 500=0.470, 1000=0.387, 2000=0.353 (EUR); Height: 2.03 mm; Inductance: 15 uH; Length: 2.92 mm; Operating Temperature Range: - 40 C to + 85 C; Package/Case: 1008 (2520 metric); Packaging: Reel; Product: RF Inductors; Series: 1008LS; Termination Style: SMD/SMT; Width: 2.79 mm; Brand: Coilcraft; Mounting Style: SMD/SMT; Standard Pack Qty: 70; RoHS - Mouser: Y; Minimum Order Quantity: 1; Reeling: True; ComponentLink1URL: http://www.mouser.com/ds/2/597/1008ls-270723.pdf; ComponentLink1Description: http://www.mouser.com/ds/2/597/1008ls-270723.pdf; Supplier Part Number 1: 994-1008LS-153XJLB
footprint INDC2520X20L (Coilcraft 1008CS, 2-Leads, Body 2,92x2,79mm, IPC High Density)
pins: 1, 2

## 1850BL15B200E
designator U?
Signal Conditioning 1700-2000 MHz Balun Ceramic Chip; Manufacturer: Johanson Technology; Manufacturer Part Number: 1850BL15B200E; Frequency: 1.85 GHz; Frequency Range: 1700 MHz to 2000 MHz; Impedance: 50 Ohms, 200 Ohms; Insertion Loss: 1 dB; Supplier 1: Mouser; RoHS: RoHS Compliant By Exemption; Category: Signal Conditioning; Stock 1: 3436; Pricing 1: 1=0.338, 10=0.198, 100=0.163, 500=0.160, 1000=0.113, 4000=0.105, 8000=0.092, 12000=0.090, 24000=0.082 (EUR); Mounting: SMD/SMT; Operating Temperature Range: - 40 C to + 85 C; Package/Case: 0805 (2012 metric); Packaging: Reel; Product: Baluns; Termination Style: SMD/SMT; Type: High Frequency Ceramic Balun; Brand: Johanson Technology; Standard Pack Qty: 4000; RoHS - Mouser: E; Minimum Order Quantity: 1; Reeling: True; ComponentLink1URL: http://www.mouser.com/ds/2/611/Balun_1850BL15B200-258221.pdf; ComponentLink1Description: http://www.mouser.com/ds/2/611/Balun_1850BL15B200-258221.pdf; Supplier Part Number 1: 609-1850BL15B200E
footprint CAF-65P200X125-6L JOHANSON1850 (BALUN, Flat, 6-Leads, Pitch 0,65mm,  Body 2,00x1,25mm,  IPC High Density)
pins: 1, 2, 3, 4, 5

## 04025A5R6CAT2A
designator C?, comment 5.6pF
AVX - 04025A5R6CAT2A - COND, MLCC, C0G/NP0, 5.6PF, 50V, 0402; Tolerance: ±10%; Voltage - Rated: 25V; Temperature Coefficient: X7R; Supplier 1: Farnell; Manufacturer: AVX; Manufacturer Part Number: 04025A5R6CAT2A; RoHS: YES; Stock 1: 52484; Pricing 1: 10=0,187, 100=0,0374, 500=0,015, 2500=0,0094, 5000=0,0075 (EUR); ComponentLink1URL: http://www.avx.com/docs/Catalogs/cpack.pdf; ComponentLink1Description: http://www.avx.com/docs/Catalogs/cpack.pdf; ComponentLink2URL: http://www.farnell.com/datasheets/2068140.pdf; ComponentLink2Description: http://www.farnell.com/datasheets/2068140.pdf; Supplier Part Number 1: 1327642; Supplier 2: Digi-Key; Category: Capacitors; Stock 2: 146109; Pricing 2: 1=0.16, 10=0.021, 100=0.009, 500=0.00648, 1000=0.0051, 2500=0.00463, 5000=0.00426 (EUR); Packaging: Cut Tape (CT); Part Status: Active; Operating Temperature: -55°C ~ 125°C; Features: -; Ratings: -; Applications: General Purpose; Mounting Type: Surface Mount, MLCC; Package / Case: 0402 (1005 Metric); Size / Dimension: 0.039" L x 0.020" W (1.00mm x 0.50mm); Height - Seated (Max): -; Thickness (Max): 0.022" (0.55mm); Lead Spacing: -; ComponentLink3URL: http://www.murata.com/~/media/webrenewal/support/library/catalog/products/capacitor/mlcc/c02e.ashx; ComponentLink3Description: http://www.murata.com/~/media/webrenewal/support/library/catalog/products/capacitor/mlcc/c02e.ashx; Supplier Part Number 2: 490-6341-1-ND
footprint RESC1005X04L (Chip Resistor, 2-Leads, Body 1,00x0,50mm, IPC High Density)
pins: 1, 2

## 04025A8R2BAT2A
designator C?, comment 8.2pF
CAP CER 8.2PF 50V NP0 0402; Manufacturer: AVX Corporation; Manufacturer Part Number: 04025A8R2BAT2A; Tolerance: ±0.1pF; Temperature Coefficient: C0G, NP0; Notification: Current market demand for these product types have resulted in fluctuating and extending lead times. Lead times may differ.; Supplier 1: Digi-Key; RoHS: RoHS Compliant; Category: Capacitors; Stock 1: 20781; Pricing 1: 1=0.09, 10=0.046, 100=0.0204, 500=0.0146, 1000=0.01148, 2500=0.01043, 5000=0.0096 (EUR); Packaging: Cut Tape (CT); Part Status: Active; Voltage - Rated: 50V; Operating Temperature: -55°C ~ 125°C; Features: -; Ratings: -; Applications: General Purpose; Failure Rate: -; Mounting Type: Surface Mount, MLCC; Package / Case: 0402 (1005 Metric); Size / Dimension: 0.039" L x 0.020" W (1.00mm x 0.50mm); Height - Seated (Max): -; Thickness (Max): 0.022" (0.56mm); Lead Spacing: -; Lead Style: -; ComponentLink1URL: http://datasheets.avx.com/C0GNP0-Dielectric.pdf; ComponentLink1Description: http://datasheets.avx.com/C0GNP0-Dielectric.pdf; Supplier Part Number 1: 478-10785-1-ND
footprint Chip2PinSM127P600-8N_CAP0402
pins: 1, 2

## 04025C271JAT2A
designator C?, comment 270pF
CAP CER 270PF 50V X7R 0402; Manufacturer: AVX Corporation; Manufacturer Part Number: 04025C271JAT2A; Tolerance: ±5%; Notification: Current market demand for these product types have resulted in fluctuating and extending lead times. Lead times may differ.; Supplier 1: Digi-Key; RoHS: RoHS Compliant; Category: Capacitors; Stock 1: 813; Pricing 1: 1=0.1, 10=0.076, 100=0.034, 500=0.02428, 1000=0.01907, 2500=0.01734, 5000=0.01596 (EUR); Packaging: Digi-Reel®; Part Status: Active; Voltage - Rated: 50V; Temperature Coefficient: X7R; Operating Temperature: -55°C ~ 125°C; Features: -; Ratings: -; Applications: General Purpose; Failure Rate: -; Mounting Type: Surface Mount, MLCC; Package / Case: 0402 (1005 Metric); Size / Dimension: 0.039" L x 0.020" W (1.00mm x 0.50mm); Height - Seated (Max): -; Thickness (Max): 0.022" (0.56mm); Lead Spacing: -; Lead Style: -; ComponentLink1URL: http://datasheets.avx.com/X7RDielectric.pdf; ComponentLink1Description: http://datasheets.avx.com/X7RDielectric.pdf; Supplier Part Number 1: 478-10124-6-ND
footprint Chip2PinSM127P600-8N_CAP0402
pins: 1, 2

## 06035C220JAT2A
designator C?, comment 22pF
CAP CER 22PF 50V X7R 0603; Manufacturer: AVX Corporation; Manufacturer Part Number: 06035C220JAT2A; Tolerance: ±5%; Supplier 1: Digi-Key; RoHS: RoHS Compliant; Category: Capacitors; Stock 1: 36578; Pricing 1: 1=0.19, 10=0.127, 25=0.0932, 50=0.0764, 100=0.0643, 250=0.05252, 500=0.04404, 1000=0.03896 (EUR); Packaging: Digi-Reel®; Part Status: Active; Capacitance: 22pF; Voltage - Rated: 50V; Temperature Coefficient: X7R; Operating Temperature: -55°C ~ 125°C; Features: -; Ratings: -; Applications: General Purpose; Mounting Type: Surface Mount, MLCC; Package / Case: 0603 (1608 Metric); Size / Dimension: 0.063" L x 0.032" W (1.60mm x 0.81mm); Height - Seated (Max): -; Thickness (Max): 0.035" (0.90mm); Lead Spacing: -; Lead Style: -; ComponentLink1URL: http://datasheets.avx.com/X7RDielectric.pdf; ComponentLink1Description: http://datasheets.avx.com/X7RDielectric.pdf; Supplier Part Number 1: 478-6204-6-ND
footprint 0603 Cap (Chip Capacitor, Body 1.6x0.8mm, IPC High Density)
pins: 1, 2

## 08051A510JAT2A
designator C?, comment 51 pF
CAP CER 51PF 100V NP0 0805; Manufacturer: AVX Corporation; Manufacturer Part Number: 08051A510JAT2A; Tolerance: ±5%; Temperature Coefficient: C0G, NP0; Type: Standard NP0 (C0G) MLCCs; Brand: AVX; Dielectric: C0G (NP0); Supplier 1: Digi-Key; RoHS: RoHS Compliant; Category: Capacitors; Stock 1: 25382; Pricing 1: 1=0.22, 10=0.154, 100=0.0787, 250=0.06368, 500=0.0562, 1000=0.04777 (EUR); Packaging: Cut Tape (CT); Capacitance: 51pF; Voltage - Rated: 100V; Mounting Type: Surface Mount, MLCC; Operating Temperature: -55°C ~ 125°C; Applications: General Purpose; Ratings: -; Package / Case: 0805 (2012 Metric); Size / Dimension: 0.079" L x 0.049" W (2.01mm x 1.25mm); Height - Seated (Max): -; Thickness (Max): 0.037" (0.94mm); Lead Spacing: -; Features: -; Lead Style: -; ComponentLink1URL: http://www.avx.com/docs/Catalogs/ccog.pdf; ComponentLink1Description: http://www.avx.com/docs/Catalogs/ccog.pdf; Supplier 2: Mouser; Stock 2: 100803; Pricing 2: 1=0.155, 50=0.079, 100=0.066, 500=0.058, 1000=0.049, 4000=0.038, 8000=0.037, 12000=0.035, 20000=0.034 (EUR); Height: 0.93 mm; Length: 2.01 mm; Package/Case: 0805 (2012 metric); Product: General Type MLCCs; Termination Style: SMD/SMT; Voltage Rating DC: 100 V; Width: 1.25 mm; Case Code - in: 0805; Case Code - mm: 2012; Maximum Operating Temperature: + 125 C; Minimum Operating Temperature: - 55 C; Product Category: 0805 SMD Ceramic Capacitors; Standard Pack Qty: 4000; RoHS - Mouser: E; Minimum Order Quantity: 1; Reeling: True; ComponentLink2URL: http://www.mouser.com/ds/2/40/ccog-243403.pdf; ComponentLink2Description: http://www.mouser.com/ds/2/40/ccog-243403.pdf; Supplier Part Number 1: 478-6214-1-ND; Supplier Part Number 2: 581-08051A510J
footprint CAPC2012X08L (Chip Capacitor, 2-Leads, Body 2,00x1,25mm, IPC High Density)
pins: 1, 2

## 12061C104M4T2A
designator C?, comment 0.1 uF
Multilayer Ceramic Capacitors MLCC - SMD/SMT 100volts .1uF 20% X7R; Manufacturer: AVX; Manufacturer Part Number: 12061C104M4T2A; Type: Automotive MLCCs X7R Dielectric; Voltage Rating DC: 100 VDC; Supplier 1: Mouser; RoHS: RoHS Compliant By Exemption; Category: Multilayer Ceramic Capacitors MLCC - SMD/SMT; Stock 1: 5730; Pricing 1: 1=0.110, 2000=0.091, 4000=0.051, 10000=0.050, 20000=0.047 (EUR); Capacitance: 0.1 uF; Height: 1.27 mm; Length: 3.2 mm; Package/Case: 1206 (3216 metric); Packaging: Reel; Product: Automotive MLCCs; Termination Style: SMD/SMT; Tolerance: 20 %; Width: 1.6 mm; Brand: AVX; Case Code - in: 1206; Case Code - mm: 3216; Dielectric: X7R; Maximum Operating Temperature: + 125 C; Minimum Operating Temperature: - 55 C; Product Category: SMD Ceramic Capacitors; Standard Pack Qty: 2000; RoHS - Mouser: E; Minimum Order Quantity: 1; Reeling: True; ComponentLink1URL: http://www.mouser.com/ds/2/40/AutoMLCC-777028.pdf; ComponentLink1Description: http://www.mouser.com/ds/2/40/AutoMLCC-777028.pdf; Supplier Part Number 1: 581-12061C104M4T2A
footprint CAPC3216X09L (Chip Capacitor, 2-Leads, Body 3,20x1,60mm, IPC High Density)
pins: 1, 2

## 45970-4305
designator J?
FMC VITA57 series connector. MOLEX 45970-4305; Current Rating: 2.7 A; Mounting Angle: Vertical; Number of Positions: 400; Voltage Rating: 240 VAC; Pitch: 1.27 mm; Connector Type: High Density Array, Male; Mated Stacking Heights: 8.5mm, 9.5mm, 10mm, 11mm, 11.5mm; Supplier 1: Mouser; Supplier Part Number 1: 538-45970-4305; Manufacturer: Molex; Manufacturer Part Number: 45970-4305; RoHS: RoHS Compliant; Category: Board to Board & Mezzanine Connectors; Stock 1: 319; Pricing 1: 1=17.65, 10=14.28, 100=10.69, 250=10.69, 500=10.16, 1000=9.93 (EUR); Contact Plating: Gold; Housing Material: Thermoplastic; Number of Rows: 4; Operating Temperature Range: - 55 C to + 125 C; Packaging: Reel; Series: 45970; Termination Style: SMD; Brand: Molex; Contact Material: Copper Alloy; Product Category: Mezzanine Connectors; Product Type: Plugs; Standard Pack Qty: 250; Tradename: SEARAY; RoHS - Mouser: Y; Minimum Order Quantity: 1; Reeling: True; ComponentLink1URL: http://www.mouser.com/ds/2/276/0459704305_PCB_HEADERS-461591.pdf; ComponentLink1Description: http://www.mouser.com/ds/2/276/0459704305_PCB_HEADERS-461591.pdf; Supplier 2: Digi-Key; Supplier Part Number 2: WM9729CT-ND; Stock 2: 628; Pricing 2: 1=17.95, 10=16.665, 25=14.956, 50=14.529, 100=12.8196 (EUR); Mounting Type: Surface Mount; Features: Board Guide, Rows A, B, E, F, I, J Not Loaded; Contact Finish: Gold; Contact Finish Thickness: 30µin (0.76µm); Height Above Board: 0.280" (7.10mm); ComponentLink2URL: http://www.molex.com/pdm_docs/sd/459704305_sd.pdf; ComponentLink2Description: http://www.molex.com/pdm_docs/sd/459704305_sd.pdf
footprint ASP-134604-01 (VITA57 LPC 10mm interconnect height connector)
part A pins: C01 GND (power), C02 DP0-C2M_P (io), C03 DP0-C2M_N (io), C04 GND (power), C05 GND (power), C06 DP0-M2C_P (io), C07 DP0-M2C_N (io), C08 GND (power), C09 GND (power), C10 LA06_P (io), C11 LA06_N (io), C12 GND (power), C13 GND (power), C14 LA10_P (io), C15 LA10_N (io), C16 GND (power), C17 GND (power), C18 LA14_P (io), C19 LA14_N (io), C20 GND (power), C21 GND (power), C22 LA18_P_CC (io), C23 LA18_N_CC (io), C24 GND (power), C25 GND (power), C26 LA27_P (io), C27 LA27_N (io), C28 GND (power), C29 GND (power), C30 SCL (in), C31 SDA (io), C32 GND (power), C33 GND (power), C34 GA0 (io), C35 12V0 (power), C36 GND (power), C37 12V0 (power), C38 GND (power), C39 3V3 (power), C40 GND (power), D01 PG_C2M (out), D02 GND (power), D03 GND (power), D04 GBTCLK0-M2C_P (io), D05 GBTCLK0-M2C_N (io), D06 GND (power), D07 GND (power), D08 LA01_P_CC (io), D09 LA01_N_CC (io), D10 GND (power), D11 LA05_P (io), D12 LA05_N (io), D13 GND (power), D14 LA09_P (io), D15 LA09_N (io), D16 GND (power), D17 LA13_P (io), D18 LA13_N (io), D19 GND (power), D20 LA17_P_CC (io), D21 LA17_N_CC (io), D22 GND (power), D23 LA23_P (io), D24 LA23_N (io), D25 GND (power), D26 LA26_P (io), D27 LA26_N (io), D28 GND (power), D29 TCK (io), D30 TDI (io), D31 TDO (io), D32 3V3VAUX (power), D33 TMS (io), D34 TRST_L (io), D35 GA1 (io), D36 3V3 (power), D37 GND (power), D38 3V3 (power), D39 GND (power), D40 3V3 (power)
part B pins: G01 GND (power), G02 CLK1-M2C_P (io), G03 CLK1-M2C_N (io), G04 GND (power), G05 GND (power), G06 LA00_P_CC (io), G07 LA00_N_CC (io), G08 GND (power), G09 LA03_P (io), G10 LA03_N (io), G11 GND (power), G12 LA08_P (io), G13 LA08_N (io), G14 GND (power), G15 LA12_P (io), G16 LA12_N (io), G17 GND (power), G18 LA16_P (io), G19 LA16_N (io), G20 GND (power), G21 LA20_P (io), G22 LA20_N (io), G23 GND (power), G24 LA22_P (io), G25 LA22_N (io), G26 GND (power), G27 LA25_P (io), G28 LA25_N (io), G29 GND (power), G30 LA29_P (io), G31 LA29_N (io), G32 GND (power), G33 LA31_P (io), G34 LA31_N (io), G35 GND (power), G36 LA33_P (io), G37 LA33_N (io), G38 GND (power), G39 VADJ_3 (power), G40 GND (power), H01 VREF-A-M2C (io), H02 PRSNT-M2C_L (in), H03 GND (power), H04 CLK0-M2C_P (io), H05 CLK0-M2C_N (io), H06 GND (power), H07 LA02_P (io), H08 LA02_N (io), H09 GND (power), H10 LA04_P (io), H11 LA04_N (io), H12 GND (power), H13 LA07_P (io), H14 LA07_N (io), H15 GND (power), H16 LA11_P (io), H17 LA11_N (io), H18 GND (power), H19 LA15_P (io), H20 LA15_N (io), H21 GND (power), H22 LA19_P (io), H23 LA19_N (io), H24 GND (power), H25 LA21_P (io), H26 LA21_N (io), H27 GND (power), H28 LA24_P (io), H29 LA24_N (io), H30 GND (power), H31 LA28_P (io), H32 LA28_N (io), H33 GND (power), H34 LA30_P (io), H35 LA30_N (io), H36 GND (power), H37 LA32_P (io), H38 LA32_N (io), H39 GND (power), H40 VADJ_4 (power)

## 150060BS75000
designator D?, comment LED BLUE
LED BLUE CLEAR 0603 SMD; Manufacturer: Wurth Electronics Inc.; Manufacturer Part Number: 150060BS75000; Lens Color: Colorless; Millicandela Rating: 145mcd; Lens Style/Size: Rectangle with Flat Top, 1.10mm x 0.70mm; Voltage - Forward (Vf) (Typ): 3.2V; Current - Test: 20mA; Viewing Angle: 140°; Wavelength - Dominant: 470nm; Wavelength - Peak: 465nm; Supplier 1: Digi-Key; RoHS: RoHS Compliant; Category: Optoelectronics; Stock 1: 20864; Pricing 1: 1=0.28, 50=0.2448, 100=0.2237, 500=0.20274, 1000=0.18875 (EUR); Packaging: Digi-Reel®; Part Status: Active; Color: Blue; Lens Transparency: Clear; Mounting Type: Surface Mount; Features: -; Package / Case: 0603 (1608 Metric); Supplier Device Package: 0603; Size / Dimension: 1.60mm L x 0.80mm W; Height (Max): 0.80mm; ComponentLink1URL: http://katalog.we-online.de/led/datasheet/150060BS75000.pdf; ComponentLink1Description: http://katalog.we-online.de/led/datasheet/150060BS75000.pdf; Supplier Part Number 1: 732-4966-6-ND
footprint 0603 LED (LED, Body 1.6x0.8mm, IPC High Density)
pins: 1 A, 2 C